# EAGLE library part M20-9980346 (library M20-9980346)
M20: 3+3 Pos Plug DIL Straight 3mm THT Connector 6.1mm pin Tin Source: Datasheet <https://content.harwin.com/m/a754d23f2d366891/original/DRG-00478-Technical-Drawing-Datasheet-M20-998-pdf.pdf>
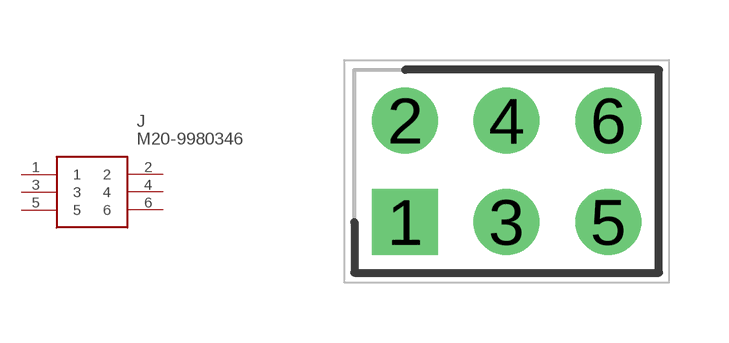
[diagram p0: symbol with the pads of HDRV6W64P254_2X3_762X508X864P; footprint HDRV6W64P254_2X3_762X508X864P]

Designator prefix J

## M20-9980346 (Description: M20: 3+3 Pos Plug DIL Straight 3mm THT Connector 6.1mm pin Tin; Height: 8.64mm; Manufacturer_Name: Harwin; Manufacturer_Part_Number: M20-9980346; Mouser_Part_Number: 855-M20-9980346; Mouser_Price-Stock: https://www.mouser.co.uk/ProductDetail/Harwin/M20-9980346?qs=%252Bk6%2F5FB6qrmHk2P20oz3FA%3D%3D)  [HDRV6W64P254_2X3_762X508X864P]
1  1
2  2
3  3
4  4
5  5
6  6

## Footprint HDRV6W64P254_2X3_762X508X864P (pad centres in mm)
M20-9980346
drill 1.1 pad 1.65 square: 1 0,0
drill 1.1 pad 1.65: 2 0,2.54; 3 2.54,0; 4 2.54,2.54; 5 5.08,0; 6 5.08,2.54